# Altium footprint library SamacSys.PcbLib: 5 footprints
Each footprint in its own frame and in the unit in brackets; x right, y up, seen from the top. Pads: shape width x height; smd on the part's side, far side on the other; paste and mask are expansions set on the pad; w line width, h text height; cw(c..) or ccw(c..) is an arc to the next point about the centre after c.
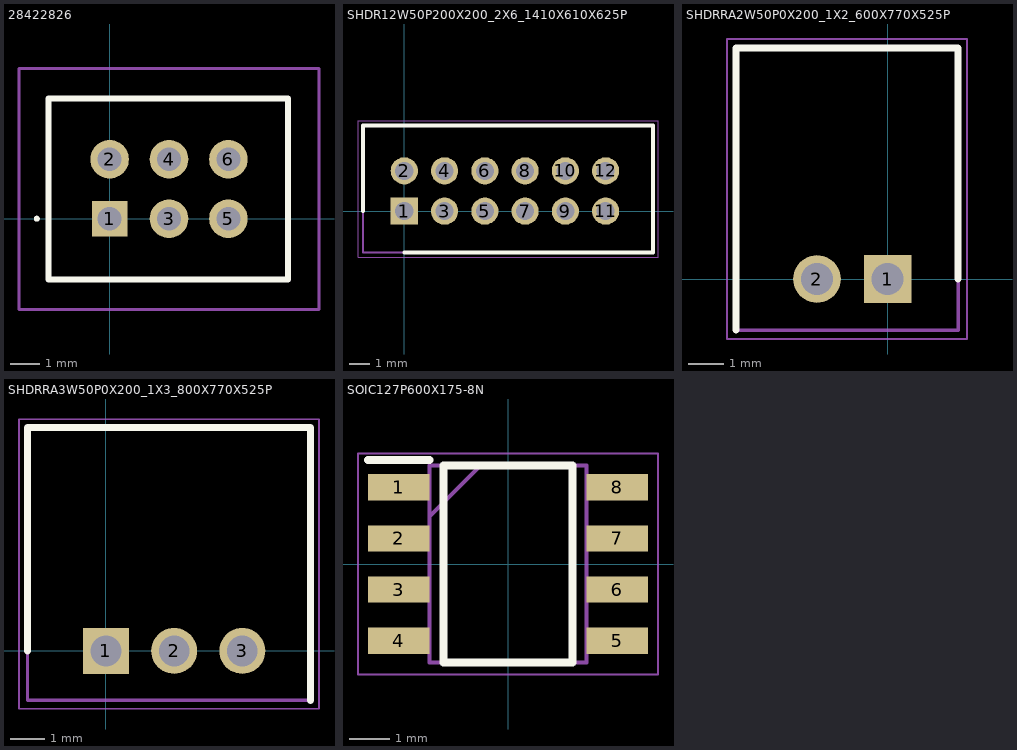
[diagram p0: the footprints below, top view; thin cyan lines are the x and y axes]

## 28422826 [mm]
pads (6):
  rect 1.2x1.2 hole 0.8: 1(0,0)
  round 1.3 hole 0.8: 2(0,2) 3(2,0) 4(2,2) 5(4,0) 6(4,2)
Top Overlay:
  lines w0.1: -2.5,0 ccw(c-2.45,0) -2.4,0 ccw(c-2.45,0) -2.5,0
  lines w0.2: -2.05,-2.05 -2.05,4.05 6,4.05 6,-2.05 -2.05,-2.05
Mechanical 13:
  lines w0.1: -2.05,-2.05 -2.05,4.05 6.05,4.05 6.05,-2.05 -2.05,-2.05
Mechanical 15:
  lines w0.1: -3.05,-3.05 -3.05,5.05 7.05,5.05 7.05,-3.05 -3.05,-3.05
3D body "2842282-6.stp": height 6.53, standoff -2.32, extent -2.07,-2.05 6.03,4.05

## SHDR12W50P200X200_2X6_1410X610X625P [mm]
pads (12):
  rect 1.35x1.35 hole 0.9: 1(0,0)
  round 1.35 hole 0.9: 2(0,2) 3(2,0) 4(2,2) 5(4,0) 6(4,2) 7(6,0) 8(6,2) 9(8,0) 10(8,2) 11(10,0) 12(10,2)
Top Overlay:
  lines w0.2: -2.05,0 -2.05,4.25 12.35,4.25 12.35,-2.05 0,-2.05
Mechanical 13:
  lines w0.1: -2.05,-2.05 12.35,-2.05 12.35,4.25 -2.05,4.25 -2.05,-2.05
Mechanical 15:
  lines w0.05: -2.3,-2.3 12.6,-2.3 12.6,4.5 -2.3,4.5 -2.3,-2.3
3D body "1-2842282-2.stp": height 6, standoff -2.85, extent -2.1,-2.06 12,4.05

## SHDRRA2W50P0X200_1X2_600X770X525P [mm]
pads (2):
  rect 1.35x1.35 hole 0.9: 1(0,0)
  round 1.35 hole 0.9: 2(-2,0)
Top Overlay:
  lines w0.2: -4.3,-1.45 -4.3,6.55 2,6.55 2,0
Mechanical 13:
  lines w0.1: -4.3,-1.45 -4.3,6.55 2,6.55 2,-1.45 -4.3,-1.45
Mechanical 15:
  lines w0.05: -4.55,-1.7 -4.55,6.8 2.25,6.8 2.25,-1.7 -4.55,-1.7
3D body "440055-2.stp": height 4.83, standoff -3.51, extent -4.01,-1.65 1.99,6.05

## SHDRRA3W50P0X200_1X3_800X770X525P [mm]
pads (3):
  rect 1.35x1.35 hole 0.9: 1(0,0)
  round 1.35 hole 0.9: 2(2,0) 3(4,0)
Top Overlay:
  lines w0.2: -2.3,0 -2.3,6.55 6,6.55 6,-1.45
Mechanical 13:
  lines w0.1: -2.3,-1.45 6,-1.45 6,6.55 -2.3,6.55 -2.3,-1.45
Mechanical 15:
  lines w0.05: -2.55,-1.7 -2.55,6.8 6.25,6.8 6.25,-1.7 -2.55,-1.7
3D body "440055-3.stp": height 4.86, standoff -3.48, extent -1.98,-1.3 6.02,6.4

## SOIC127P600X175-8N [mm]
pads (8):
  rect 1.525x0.65 smd: 1(-2.712,1.905) 2(-2.712,0.635) 3(-2.712,-0.635) 4(-2.712,-1.905) 5(2.712,-1.905) 6(2.712,-0.635) 7(2.712,0.635) 8(2.712,1.905)
Top Overlay:
  lines w0.2: -3.475,2.58 -1.95,2.58 ; -1.6,-2.45 -1.6,2.45 1.6,2.45 1.6,-2.45 -1.6,-2.45
Mechanical 13:
  lines w0.1: -1.95,1.18 -0.68,2.45 ; -1.95,-2.45 -1.95,2.45 1.95,2.45 1.95,-2.45 -1.95,-2.45
Mechanical 15:
  lines w0.05: -3.725,-2.75 -3.725,2.75 3.725,2.75 3.725,-2.75 -3.725,-2.75
3D body "NE555DR.stp": height 1.75, standoff 0, extent -3,-2.45 3,2.45